# EAGLE library part GL823(A) (library GL823)
USB 2.0 SD/MMC Card Reader Controller (3.3V)
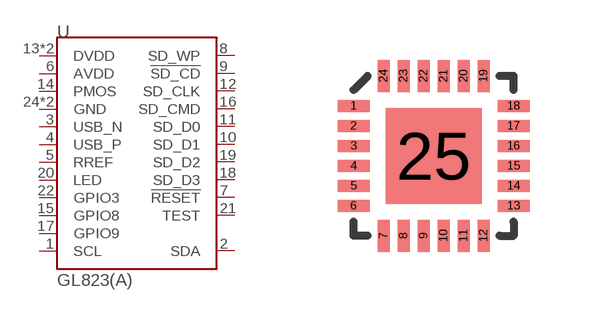
[diagram p1: symbol with the pads of QFN-24; footprint QFN-24]

Designator prefix U

## GL823(A)OG  [QFN-24]
1  SCL
2  SDA
3  USB_N
4  USB_P
5  RREF
6  AVDD  pwr
7  !RESET  in
8  SD_WP  in
9  !SD_CD  in
10  SD_D1
11  SD_D0
12  SD_CLK  out
13  DVDD  pwr
14  PMOS  pwr
15  GPIO8
16  SD_CMD
17  GPIO9
18  SD_D3
19  SD_D2
20  LED  out
21  TEST  in
22  GPIO3
23  DVDD  pwr
24  GND  pwr
25  GND  pwr

## Footprint QFN-24 (pad centres in mm)
smd 0.8 x 0.3: 1 -2,1.25; 2 -2,0.75; 3 -2,0.25; 4 -2,-0.25; 5 -2,-0.75; 6 -2,-1.25; 13 2,-1.25; 14 2,-0.75; 15 2,-0.25; 16 2,0.25; 17 2,0.75; 18 2,1.25
smd 0.3 x 0.8: 7 -1.25,-2; 8 -0.75,-2; 9 -0.25,-2; 10 0.25,-2; 11 0.75,-2; 12 1.25,-2; 19 1.25,2; 20 0.75,2; 21 0.25,2; 22 -0.25,2; 23 -0.75,2; 24 -1.25,2
smd 2.4 x 2.4: 25 0,0